# Altium footprint library jlc.PcbLib: 6 footprints
Each footprint in its own frame and in the unit in brackets; x right, y up, seen from the top. Pads: shape width x height; smd on the part's side, far side on the other; paste and mask are expansions set on the pad; w line width, h text height; cw(c..) or ccw(c..) is an arc to the next point about the centre after c.
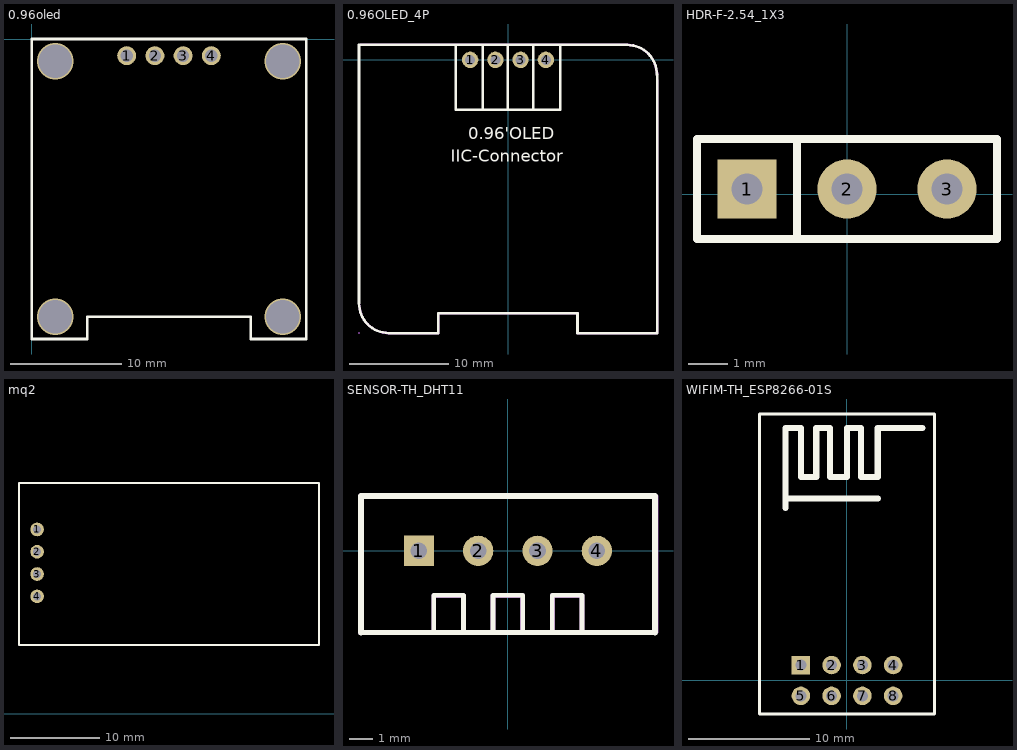
[diagram p0: the footprints below, top view; thin cyan lines are the x and y axes]

## 0.96oled [mm]
pads (4):
  round 1.7 hole 1.1: 1(8.54,-1.5) 2(11.08,-1.5) 3(13.62,-1.5) 4(16.16,-1.5)
via 22.6,-25 diameter 3.3 hole 3
via 2.1,-25 diameter 3.3 hole 3
via 22.6,-2 diameter 3.3 hole 3
via 2.1,-2 diameter 3.3 hole 3
Top Overlay:
  lines w0.254: 0,-27 5,-27 5,-25 19.7,-25 19.7,-27 24.7,-27 24.7,0 12.35,0 0,0 0,-27

## 0.96OLED_4P [mm]
pads (4):
  round 1.65 hole 1 copper offset 0,0: 1(-3.81,-0.001) 2(-1.27,0.002) 3(1.27,0.002) 4(3.81,0.002)
Top Overlay:
  lines w0.254: -15.001,-24.499 ccw(c-12.001,-24.499) -12.001,-27.499 ; -14.999,-24.499 -14.999,1.501 11.997,1.501 ; -12.003,-27.499 -7.003,-27.499 -7.003,-25.5 6.997,-25.5 ; -5.252,-4.999 3.101,-5 5.247,-4.999 ; -5.252,-4.952 -5.252,1.501 ; -2.543,-4.952 -2.543,1.398 ; -0.003,-4.952 -0.003,1.501 ; 2.537,-4.952 2.537,1.398 ; 5.247,-4.952 5.247,1.503 ; 6.997,-27.499 15.001,-27.499 15.001,-1.499 ; 6.997,-27.498 6.997,-25.499 ; 11.999,1.503 cw(c11.999,-1.497) 14.999,-1.5
  text "IIC-Connector" at -5.756,-10.247 h1.2
  text "0.96'OLED" at -3.998,-8 h1.2
Mechanical 6:
  region: -15.1,1.501 -15.1,-24.5 -15.1,-24.703 -15.047,-25.106 -14.942,-25.499 -14.786,-25.874 -14.583,-26.226 -14.336,-26.548 -14.048,-26.836 -13.726,-27.083 -13.374,-27.286 -12.999,-27.442 -12.606,-27.547 -12.203,-27.6 -12,-27.6 -7,-27.6 -6.98,-27.6 -6.943,-27.585 -6.915,-27.557 -6.9,-27.52 -6.9,-27.5 -6.9,-25.6 6.9,-25.6 6.9,-27.5 6.9,-27.52 6.915,-27.557 6.943,-27.585 6.98,-27.6 7,-27.6 15,-27.6 15.02,-27.6 15.057,-27.585 15.085,-27.557 15.1,-27.52 15.1,-27.5 15.1,-2 14.9,-2 14.9,-27.35 14.899,-27.36 14.892,-27.378 14.878,-27.392 14.86,-27.399 14.85,-27.4 7.15,-27.4 7.14,-27.399 7.122,-27.392 7.108,-27.378 7.101,-27.36 7.1,-27.35 7.1,-25.5 7.1,-25.48 7.085,-25.443 7.057,-25.415 7.02,-25.4 7,-25.4 -6.95,-25.4 -6.98,-25.4 -7.035,-25.423 -7.077,-25.465 -7.1,-25.52 -7.1,-25.55 -7.1,-27.35 -7.101,-27.36 -7.108,-27.378 -7.122,-27.392 -7.14,-27.399 -7.15,-27.4 -12,-27.4 -12.19,-27.394 -12.566,-27.344 -12.932,-27.246 -13.283,-27.101 -13.611,-26.911 -13.912,-26.68 -14.18,-26.412 -14.411,-26.111 -14.601,-25.783 -14.746,-25.432 -14.844,-25.066 -14.894,-24.69 -14.9,-24.5 -14.9,1.501
  region: -14.85,1.6 -14.85,1.4 12,1.4 12.19,1.394 12.566,1.344 12.932,1.246 13.283,1.101 13.611,0.911 13.912,0.68 14.18,0.412 14.411,0.111 14.601,-0.217 14.746,-0.568 14.844,-0.934 14.894,-1.31 14.9,-1.5 15.1,-1.5 15.1,-1.297 15.047,-0.894 14.942,-0.501 14.786,-0.126 14.583,0.226 14.336,0.548 14.048,0.836 13.726,1.083 13.374,1.286 12.999,1.442 12.606,1.547 12.203,1.6 12,1.6 11.95,1.6 -14.8,1.6
Mechanical 15:
  region: -14.941,-27.499 -14.941,-27.474 -14.976,-27.439 -15.026,-27.439 -15.061,-27.474 -15.061,-27.499 -15.061,-27.524 -15.026,-27.559 -14.976,-27.559 -14.941,-27.524 -14.941,-27.499
  region: 3.49,0.321 4.13,0.321 4.13,-0.319 3.49,-0.319
  region: 0.95,0.321 1.59,0.321 1.59,-0.319 0.95,-0.319
  region: -1.59,0.321 -0.95,0.321 -0.95,-0.319 -1.59,-0.319
  region: -4.13,0.319 -3.49,0.319 -3.49,-0.321 -4.13,-0.321
  lines w0.051: -14.999,1.501 -14.999,1.501 ; -14.999,1.501 -14.999,1.501 ; -14.999,1.501 -14.999,1.501 ; -14.999,1.501 -15.001,-24.499 ccw(c-12.002,-24.499) -12.002,-27.499 -7.003,-27.499 ; -14.999,1.501 -14.998,1.5 -14.997,1.503 11.999,1.503 cw(c11.999,-1.497) 14.999,-1.497 14.999,-27.497 ; -7.003,-27.499 -7.003,-27.499 ; -7.003,-27.499 -7.003,-27.499 ; -7.003,-27.499 -7.003,-27.499 ; -7.003,-27.499 -7.003,-27.498 ; -7.003,-27.499 -7.003,-25.5 -7.001,-25.5 -7.002,-25.499 ; -7.003,-27.499 -7.003,-27.498 ; -7.002,-25.499 -7.002,-25.499 ; -7.002,-25.499 -7.002,-25.499 ; -7.002,-25.499 -7.002,-25.499 ; -7.002,-25.499 6.997,-25.499 6.997,-27.498 6.999,-27.498 6.999,-27.499 ; 6.998,-27.499 6.999,-27.499 ; 6.998,-27.499 6.998,-27.499 ; 6.998,-27.499 6.999,-27.499 ; 6.999,-27.499 15.001,-27.499 15,-27.495 14.999,-27.497 ; 14.999,-27.497 ccw(c14.999,-27.499) 14.998,-27.497 ; 14.999,-27.497 14.999,-27.497 ; 14.998,-27.497 14.999,-27.497

## HDR-F-2.54_1X3 [mm]
pads (3):
  rect 1.5x1.5 hole 0.8: 1(-2.54,0.127)
  round 1.5 hole 0.8: 2(0,0.127) 3(2.54,0.127)
Top Overlay:
  lines w0.2: -1.27,-1.143 -1.27,1.397 ; -3.81,-1.143 -3.81,1.397 3.81,1.397 3.81,-1.143 -3.81,-1.143

## mq2 [mil]
pads (4):
  round 60 hole 36: 1(-2235,815) 2(-2235,716.57) 3(-2235,618.15) 4(-2235,519.72)
Top Overlay:
  lines w10: -2315,305 -990,305 -990,1020 -2315,1020 -2315,305

## SENSOR-TH_DHT11 [mil]
pads (4):
  rect 51x51 hole 28: 1(-150,0)
  round 51 hole 28: 2(-50,0) 3(50,0) 4(150,0)
Top Overlay:
  lines w8: -248.4,-137.8 150,-137.8 248.4,-137.8 ; -125,-137.8 -125,-75 -75,-75 -75,-137.8 ; -25,-137.8 -25,-75 25,-75 25,-137.8 ; 75,-137.8 75,-75 125,-75 125,-137.8
  lines w10: -248.03,-137.8 -248.03,92.5 248.03,92.5 248.4,92.14 248.4,-137.8
Mechanical 6:
  region: -121.26,-133.87 -128.74,-133.87 -128.74,-74.03 -125.98,-71.27 -74.02,-71.27 -71.26,-74.03 -71.26,-133.48 -78.74,-133.48 -78.74,-79.15 -79.13,-78.75 -120.87,-78.75 -121.26,-79.15
  region: -21.25,-133.87 -28.73,-133.87 -28.73,-74.03 -25.98,-71.27 25.99,-71.27 28.75,-74.03 28.75,-133.48 21.27,-133.48 21.27,-79.15 20.87,-78.75 -20.86,-78.75 -21.25,-79.15
  region: 78.74,-133.87 71.26,-133.87 71.26,-74.03 74.02,-71.27 125.98,-71.27 128.74,-74.03 128.74,-133.48 121.26,-133.48 121.26,-79.15 120.87,-78.75 79.14,-78.75 78.74,-79.15
  region: -243.31,-133.87 -243.31,87.78 243.7,87.78 243.7,-133.87 -237.4,-133.87 -237.4,-141.75 249.61,-141.75 253.15,-138.2 253.15,92.9 248.82,97.23 -248.82,97.23 -252.75,93.29 -252.75,-139.38 -250.39,-141.75 -237.79,-141.75 -237.79,-133.87
Mechanical 15:
  region: 159.84,-5.91 140.16,-5.91 140.16,5.91 159.84,5.91
  region: 59.84,-5.91 40.16,-5.91 40.16,5.91 59.84,5.91
  region: -40.16,-5.91 -59.84,-5.91 -59.84,5.91 -40.16,5.91
  region: -140.16,-5.91 -159.84,-5.91 -159.84,5.91 -140.16,5.91
  region: -245.67,-138.59 -245.71,-137.64 -247.08,-136.34 -248.97,-136.34 -250.34,-137.64 -250.39,-138.59 -250.34,-139.53 -248.98,-140.84 -247.08,-140.84 -245.71,-139.54 -245.67,-138.59
  lines w2: -248.03,-139.77 -248.03,92.51 248.03,92.51 248.03,-139.77 -248.03,-139.77

## WIFIM-TH_ESP8266-01S [mil]
pads (8):
  rect 60x60 hole 36 paste-99999 mask+1.97: 1(-150,50)
  round 60 hole 36 paste-99999 mask+1.97: 2(-50,50) 3(50,50) 4(150,50) 5(-150,-50) 6(-50,-50) 7(50,-50) 8(150,-50)
Top Overlay:
  lines w10: -285,-109.06 -285,865.95 285,865.95 285,-109.06 -285,-109.06
  lines w19.68: -200,560.95 -200,590.95 ; 100,590.95 -200,590.95 ; 245,820.95 100,820.95 100,660.95 45,660.95 45,820.95 0,820.95 0,660.95 -55,660.95 -55,820.95 -100,820.95 -100,660.95 -150,660.95 -150,820.95 -200,820.95 -200,590.95